# Altium footprint library INF-PG-TSDSON-8-FL.PcbLib: 1 footprints
Each footprint in its own frame and in the unit in brackets; x right, y up, seen from the top. Pads: shape width x height; smd on the part's side, far side on the other; paste and mask are expansions set on the pad; w line width, h text height; cw(c..) or ccw(c..) is an arc to the next point about the centre after c.
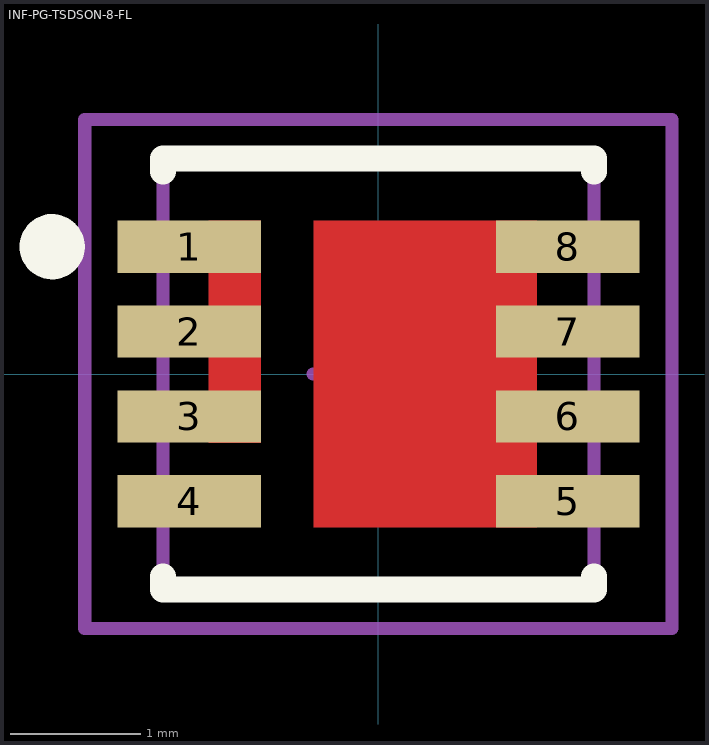
[diagram p0: the footprint, top view; thin cyan lines are the x and y axes]

## INF-PG-TSDSON-8-FL [mm] "SON,0.65mm pitch;8 pin,3.3mm W X 3.3mm L X 1.10mm H body"
height 1.1
pads (8):
  rect 1.1x0.4 smd paste+0 mask+0: 1(-1.45,0.975) 2(-1.45,0.325) 3(-1.45,-0.325) 4(-1.45,-0.975) 5(1.45,-0.975) 6(1.45,-0.325) 7(1.45,0.325) 8(1.45,0.975)
Top Layer:
  region: -0.9,-0.525 -1.3,-0.525 -1.3,1.175 -0.9,1.175
  region: 1.212,1.175 -0.497,1.175 -0.497,-1.175 1.212,-1.175
Top Overlay:
  circle w0.25: c-2.5,0.975 r0.125
  lines w0.2: -1.65,-1.55 -1.65,-1.65 1.65,-1.65 1.65,-1.55 ; -1.65,1.55 -1.65,1.65 1.65,1.65 1.65,1.55
Mechanical 13:
  lines w0.1: -1.65,-1.65 1.65,-1.65 1.65,1.65 -1.65,1.65 -1.65,-1.65
Mechanical 15:
  lines w0.1: -0.5,0 0.5,0 ; 0,-0.5 0,0.5 ; -2.25,-1.95 -2.25,1.95 2.25,1.95 2.25,-1.95 -2.25,-1.95
3D body "PG-TSDSON-8-2_C66065-A6779-C015-06-0004.stp": height 1.01, standoff 0, extent -1.65,-1.65 1.65,1.65